# Altium footprint library 5019530407.PcbLib: 1 footprints
Each footprint in its own frame and in the unit in brackets; x right, y up, seen from the top. Pads: shape width x height; smd on the part's side, far side on the other; paste and mask are expansions set on the pad; w line width, h text height; cw(c..) or ccw(c..) is an arc to the next point about the centre after c.
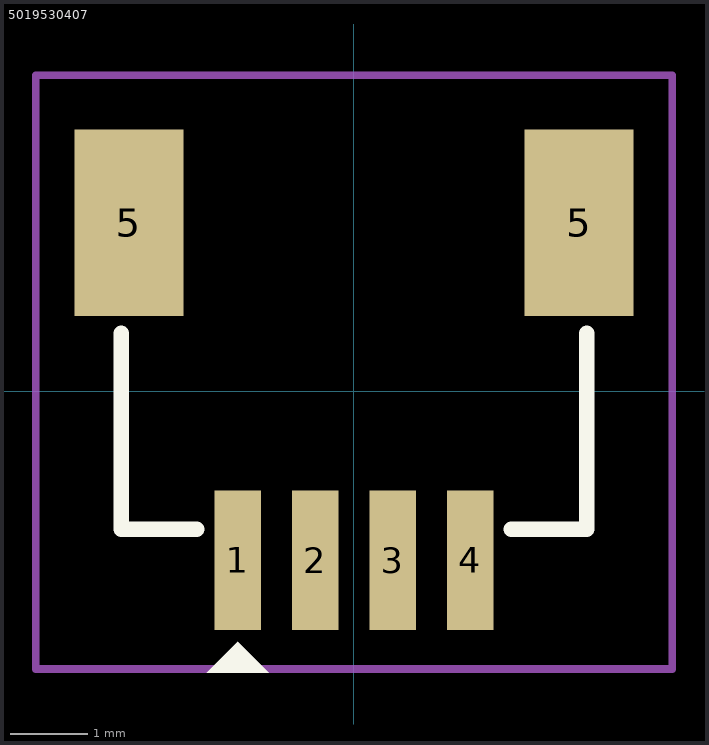
[diagram p0: the footprint, top view; thin cyan lines are the x and y axes]

## 5019530407 [mm]
pads (6):
  rect 0.6x1.8 smd: 1(-1.5,-2.175) 2(-0.5,-2.175) 3(0.5,-2.175) 4(1.5,-2.175)
  rect 1.4x2.4 smd: 5(-2.9,2.175) 5(2.9,2.175)
Top Overlay:
  region: -1.1,-3.625 -1.9,-3.625 -1.5,-3.225
  lines w0.2: -3,0.75 -3,-1.775 -2.025,-1.775 ; 2.025,-1.775 3,-1.775 3,0.75
Top Courtyard:
  lines w0.1: -4.1,3.375 -4.1,4.075 ; -3,4.075 -4.1,4.075 ; -0.5,-3.575 -4.1,-3.575 ; 3,4.075 4.1,4.075 ; 4.1,3.375 4.1,4.075 ; -4.1,-3.575 4.1,-3.575 4.1,4.075 ; -4.1,-3.575 -4.1,4.075 ; -4.1,4.075 4.1,4.075
3D body "5019530407.stp": height 4.75, standoff 0.05, extent -3,-2.325 3,3.575